# EAGLE library part USBULC6 (library ICs)
Ultra large bandwidth ESD protection
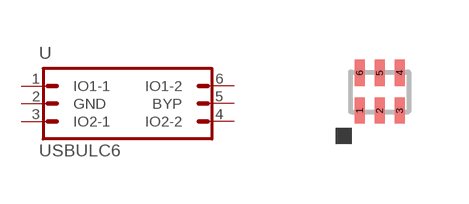
[diagram p3: symbol with the pads of 6-UQFN; footprint 6-UQFN]

Designator prefix U

## USBULC6-2M6  [6-UQFN]
1  IO1-1
2  GND  pas
3  IO2-1
4  IO2-2
5  BYP  pas
6  IO1-2

## Footprint 6-UQFN (pad centres in mm)
6-Lead Micro QFN 1.45 x 1.00 mm Body
smd 0.25 x 0.65: 1 -0.5,-0.475; 2 0,-0.475; 3 0.5,-0.475; 4 0.5,0.475; 5 0,0.475; 6 -0.5,0.475